# EAGLE library part ESP_8266 (library usevolt)
Halpa Wifi-moduli
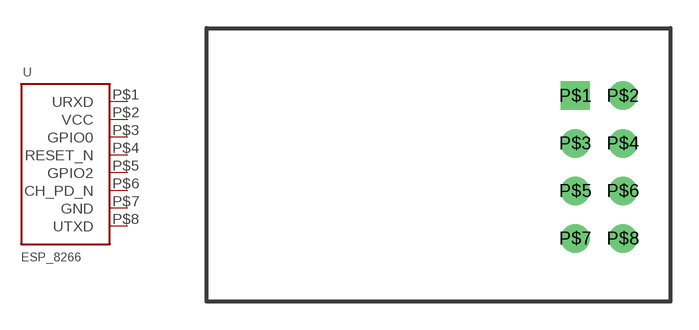
[diagram p18: symbol with the pads of ESP8266; footprint ESP8266]

Designator prefix U

## ESP_8266TROUGHT_HOLE  [ESP8266]
P$1  URXD
P$2  VCC
P$3  GPIO0
P$4  RESET_N
P$5  GPIO2
P$6  CH_PD_N
P$7  GND
P$8  UTXD

## Footprint ESP8266 (pad centres in mm)
drill 1.016 square: P$1 0,0
drill 1.016: P$2 2.54,0; P$3 0,-2.54; P$4 2.54,-2.54; P$5 0,-5.08; P$6 2.54,-5.08; P$7 0,-7.62; P$8 2.54,-7.62